# Altium footprint library EPC_2017Q3.pcblib: 23 footprints (part 2 of 2)
Each footprint in its own frame and in the unit in brackets; x right, y up, seen from the top. Pads: shape width x height; smd on the part's side, far side on the other; paste and mask are expansions set on the pad; w line width, h text height; cw(c..) or ccw(c..) is an arc to the next point about the centre after c.
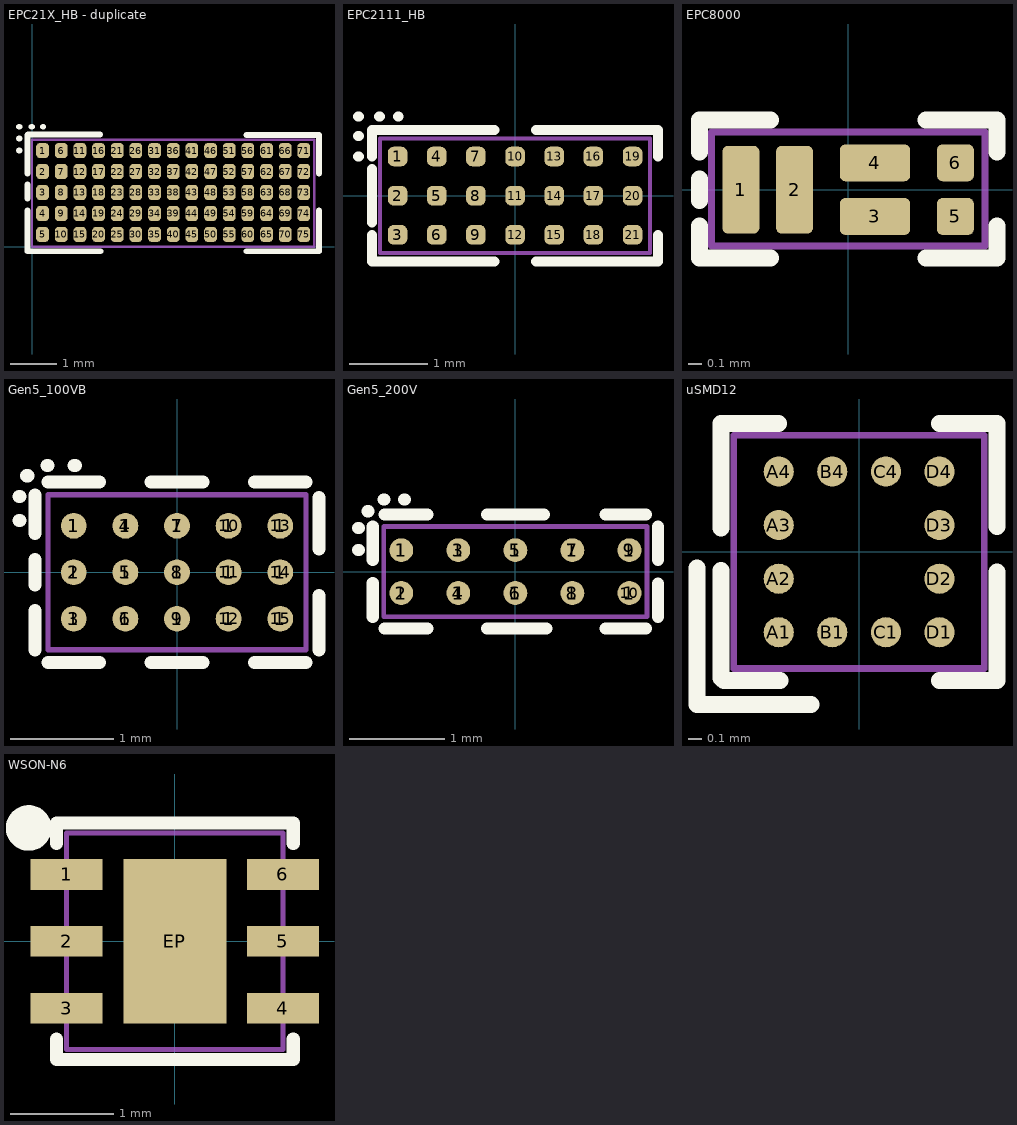
[diagram p1: the footprints below, top view; thin cyan lines are the x and y axes]

## EPC21X_HB - duplicate [mm]
height 0.8
pads (75):
  rrect60% 0.273x0.323 smd paste-0.046 mask-0.046: 1(0.225,2.06) 2(0.225,1.61) 3(0.225,1.16) 4(0.225,0.71) 5(0.225,0.26) 6(0.625,2.06) 7(0.625,1.61) 8(0.625,1.16) 9(0.625,0.71) 10(0.625,0.26) 11(1.025,2.06) 12(1.025,1.61) 13(1.025,1.16) 14(1.025,0.71) 15(1.025,0.26) 16(1.425,2.06) 17(1.425,1.61) 18(1.425,1.16) 19(1.425,0.71) 20(1.425,0.26) 21(1.825,2.06) 22(1.825,1.61) 23(1.825,1.16) 24(1.825,0.71) 25(1.825,0.26) 26(2.225,2.06) 27(2.225,1.61) 28(2.225,1.16) 29(2.225,0.71) 30(2.225,0.26) 31(2.625,2.06) 32(2.625,1.61) 33(2.625,1.16) 34(2.625,0.71) 35(2.625,0.26) 36(3.025,2.06) 37(3.025,1.61) 38(3.025,1.16) 39(3.025,0.71) 40(3.025,0.26) 41(3.425,2.06) 42(3.425,1.61) 43(3.425,1.16) 44(3.425,0.71) 45(3.425,0.26) 46(3.825,2.06) 47(3.825,1.61) 48(3.825,1.16) 49(3.825,0.71) 50(3.825,0.26) 51(4.225,2.06) 52(4.225,1.61) 53(4.225,1.16) 54(4.225,0.71) 55(4.225,0.26) 56(4.625,2.06) 57(4.625,1.61) 58(4.625,1.16) 59(4.625,0.71) 60(4.625,0.26) 61(5.025,2.06) 62(5.025,1.61) 63(5.025,1.16) 64(5.025,0.71) 65(5.025,0.26) 66(5.425,2.06) 67(5.425,1.61) 68(5.425,1.16) 69(5.425,0.71) 70(5.425,0.26) 71(5.825,2.06) 72(5.825,1.61) 73(5.825,1.16) 74(5.825,0.71) 75(5.825,0.26)
Top Overlay:
  lines w0.127: -0.28,2.06 -0.27,2.06 ; -0.28,2.32 -0.27,2.32 ; -0.28,2.57 -0.27,2.57 ; -0.1,0.77 -0.1,-0.1 1.47,-0.1 ; -0.1,1.03 -0.1,1.33 ; -0.1,1.57 -0.1,2.39 ; -0.09,2.4 1.46,2.4 ; -0.01,2.57 0,2.57 ; 0.23,2.57 0.24,2.57 ; 4.6,-0.1 6.15,-0.1 6.15,0.77 ; 4.6,2.39 6.15,2.39 6.15,1.57
Mechanical 13:
  lines w0.05: 6.04,0 0,0 0,2.29 6.05,2.29 6.05,0
3D body: height 0.81, standoff 0.1, extent 0,0 6.04,2.29

## EPC2111_HB [mm]
height 0.8
pads (21):
  rrect60% 0.25x0.25 smd paste+0.025 mask-0.025: 1(-1.5,0.5) 2(-1.5,0) 3(-1.5,-0.5) 4(-1,0.5) 5(-1,0) 6(-1,-0.5) 7(-0.5,0.5) 8(-0.5,0) 9(-0.5,-0.5) 10(0,0.5) 11(0,0) 12(0,-0.5) 13(0.5,0.5) 14(0.5,0) 15(0.5,-0.5) 16(1,0.5) 17(1,0) 18(1,-0.5) 19(1.5,0.5) 20(1.5,0) 21(1.5,-0.5)
Top Overlay:
  lines w0.127: -2.005,0.5 -1.995,0.5 ; -2.005,0.76 -1.995,0.76 ; -2.005,1.01 -1.995,1.01 ; -1.825,-0.84 -1.825,-0.5 ; -1.825,-0.34 -1.825,0 -1.825,0.34 ; -1.825,0.5 -1.825,0.84 ; -1.815,-0.84 -0.265,-0.84 ; -1.815,0.84 -0.265,0.84 ; -1.735,1.01 -1.725,1.01 ; -1.495,1.01 -1.485,1.01 ; 0.265,-0.84 1.825,-0.84 1.825,-0.5 ; 0.265,0.84 1.815,0.84 ; 1.825,0.5 1.825,0.84
Mechanical 13:
  lines w0.05: -1.725,-0.73 1.725,-0.73 ; -1.725,-0.725 -1.725,0.73 1.725,0.73 1.725,-0.725
3D body: height 0.81, standoff 0.1, extent -1.725,-0.727 1.725,0.73

## EPC8000 [mm] "eGaN FET"
height 0.8
pads (12):
  rrect30% 0.275x0.655 smd paste-0.048 mask-0.275: 1(-0.8,0) 2(-0.4,0)
  rrect30% 0.525x0.275 smd paste-0.048 mask-0.275: 3(0.2,-0.2) 4(0.2,0.2)
  rrect30% 0.275x0.275 smd paste-0.038 mask-0.275: 5(0.8,-0.2) 6(0.8,0.2)
  oval 0.18x0.56 on Top Solder paste+0 mask+0: ""(-0.8,0) ""(-0.4,0)
  oval 0.43x0.18 on Top Solder paste+0 mask+0: ""(0.2,-0.2) ""(0.2,0.2)
  round 0.18 on Top Solder paste+0 mask+0: ""(0.8,-0.2) ""(0.8,0.2)
Top Overlay:
  lines w0.127: -1.11,-0.27 -1.11,-0.51 -0.58,-0.51 ; -1.11,-0.08 -1.11,0.08 ; -1.11,0.28 -1.11,0.52 -0.58,0.52 ; 0.58,-0.51 1.11,-0.51 1.11,-0.27 ; 0.58,0.52 1.11,0.52 1.11,0.28
Mechanical 13:
  lines w0.05: -1.02,-0.42 -1.02,0.43 1.02,0.43 1.02,-0.42 -1.02,-0.42
3D body: height 0.81, standoff 0.1, extent -1.03,-0.42 1.02,0.43

## Gen5_100VB [mm] "Gen 5 100 V medium"
height 0.8
pads (30):
  rrect50% 0.3x0.25 on Top Paste paste+0 mask+0: 1(-1,-0.45) 1(-1,0) 1(-1,0.45) 1(-0.5,-0.45) 1(-0.5,0) 1(-0.5,0.45) 1(0,-0.45) 1(0,0) 1(0,0.45) 1(0.5,-0.45) 1(0.5,0) 1(0.5,0.45) 1(1,0.45) 1(1,-0.45) 1(1,0)
  round 0.25 smd paste+0 mask-0.01: 1(-1,0.45) 2(-1,0) 3(-1,-0.45) 4(-0.5,0.45) 5(-0.5,0) 6(-0.5,-0.45) 7(0,0.45) 8(0,0) 9(0,-0.45) 10(0.5,0.45) 11(0.5,0) 12(0.5,-0.45) 13(1,0.45) 14(1,0) 15(1,-0.45)
Top Overlay:
  lines w0.127: -1.53,0.5 -1.52,0.5 ; -1.53,0.735 -1.52,0.735 ; -1.455,0.935 -1.445,0.935 ; -1.375,-0.75 -1.375,-0.37 ; -1.375,-0.125 -1.375,0.125 ; -1.375,0.375 -1.375,0.75 ; -1.26,1.035 -1.25,1.035 ; -1.25,-0.875 -0.75,-0.875 ; -1.25,0.875 -0.75,0.875 ; -0.995,1.035 -0.985,1.035 ; -0.25,-0.875 0.25,-0.875 ; -0.25,0.875 0.25,0.875 ; 0.75,-0.875 1.25,-0.875 ; 0.75,0.875 1.25,0.875 ; 1.375,-0.75 1.375,-0.225 ; 1.375,0.225 1.375,0.725
Mechanical 13:
  lines w0.05: -1.25,-0.75 1.25,-0.75 1.25,0.75 -1.25,0.75 -1.25,-0.75
3D body: height 0.81, standoff 0.1, extent -1.25,-0.75 1.25,0.75

## Gen5_200V [mm] "Gen 5 200 V medium"
height 0.8
pads (20):
  rrect50% 0.3x0.25 on Top Paste paste+0 mask+0: 1(-1.2,-0.225) 1(-1.2,0.225) 1(-0.6,-0.225) 1(-0.6,0.225) 1(0,-0.225) 1(0,0.225) 1(0.6,-0.225) 1(0.6,0.225) 1(1.2,0.225) 1(1.2,-0.225)
  round 0.25 smd paste+0 mask-0.01: 1(-1.2,0.225) 2(-1.2,-0.225) 3(-0.6,0.225) 4(-0.6,-0.225) 5(0,0.225) 6(0,-0.225) 7(0.6,0.225) 8(0.6,-0.225) 9(1.2,0.225) 10(1.2,-0.225)
Top Overlay:
  lines w0.127: -1.655,0.225 -1.645,0.225 ; -1.655,0.46 -1.645,0.46 ; -1.555,0.635 -1.545,0.635 ; -1.5,-0.475 -1.5,-0.12 ; -1.5,0.125 -1.5,0.475 ; -1.385,0.76 -1.375,0.76 ; -1.375,-0.6 -0.925,-0.6 ; -1.375,0.6 -0.925,0.6 ; -1.17,0.76 -1.16,0.76 ; -0.3,-0.6 0.325,-0.6 ; -0.3,0.6 0.3,0.6 ; 0.95,-0.6 1.375,-0.6 ; 0.95,0.6 1.375,0.6 ; 1.5,-0.475 1.5,-0.125 ; 1.5,0.125 1.5,0.475
Mechanical 13:
  lines w0.05: -1.383,-0.475 1.383,-0.475 1.383,0.475 -1.383,0.475 -1.383,-0.475
3D body: height 0.81, standoff 0.1, extent -1.385,-0.475 1.385,0.475

## uSMD12 [mm] "Micro SMD 2mm x 2mm 12pin BGA"
height 0.6
pads (12):
  round 0.225 smd paste+0 mask+0.025: A1(-0.6,-0.6) A2(-0.6,-0.2) A3(-0.6,0.2) A4(-0.6,0.6) B1(-0.2,-0.6) B4(-0.2,0.6) C1(0.2,-0.6) C4(0.2,0.6) D1(0.6,-0.6) D2(0.6,-0.2) D3(0.6,0.2) D4(0.6,0.6)
Top Overlay:
  lines w0.127: -1.21,-0.12 -1.21,-1.14 -0.36,-1.14 ; -1.03,-0.14 -1.03,-0.94 -1.01,-0.96 -0.59,-0.96 ; -1.03,0.18 -1.03,0.96 -0.6,0.96 ; 0.6,-0.96 1.03,-0.96 1.03,-0.15 ; 0.6,0.96 1.03,0.96 1.03,0.19
Mechanical 13:
  lines w0.05: -0.935,-0.871 -0.935,0.871 0.935,0.871 0.935,-0.871 -0.935,-0.871
3D body: height 0.5, standoff 0.1, extent -0.93,-0.87 0.93,0.87

## WSON-N6 [mm]
height 0.8
pads (7):
  rect 0.7x0.3 smd paste-0.025 mask+0.07: 1(-1.05,0.65) 2(-1.05,0) 3(-1.05,-0.65) 4(1.05,-0.65) 5(1.05,0) 6(1.05,0.65)
  rect 1x1.6 smd paste-0.1 mask+0.07: EP(0,0)
Top Overlay:
  circle w0.254: c-1.419,1.1 r0.094
  lines w0.127: -1.15,-0.95 -1.15,-1.15 1.15,-1.15 1.15,-0.95 ; -1.15,0.95 -1.15,1.15 1.15,1.15 1.15,0.95
Mechanical 13:
  lines w0.05: -1.05,-1.05 1.05,-1.05 1.05,1.05 -1.05,1.05 -1.05,-1.05
3D body: height 0.8, standoff 0.1, extent -1.05,-1.05 1.05,1.05